# Altium schematic symbol library TPS54160DGQ.SchLib: 1 symbol
Pins are listed as number, name and electrical type; pins without a type are passive.

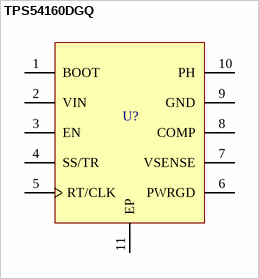
[diagram p0: symbol TPS54160DGQ]

## TPS54160DGQ
designator U?
MP: TPS54160DGQ; MF: Texas Instruments; Availability: Warning; Package: HVSSOP-10 Texas Instruments; SnapEDA_Link: https://www.snapeda.com/parts/TPS54160DGQ/Texas%20Instruments/view-part/393939/?ref=snap; Purchase-URL: https://pricing.snapeda.com/search/part/TPS54160DGQ/?ref=eda; Check_prices: https://www.snapeda.com/parts/TPS54160DGQ/Texas%20Instruments/view-part/393939/?ref=eda; Value: *; Price: None
footprint IC_XTR111AIDGQR
pins: 1 BOOT, 2 VIN, 3 EN, 4 SS/TR, 5 RT/CLK, 6 PWRGD, 7 VSENSE, 8 COMP, 9 GND, 10 PH, 11 EP